# Altium schematic symbol library AS081.A1.SchLib: 1 symbol
Pins are listed as number, name and electrical type; pins without a type are passive.

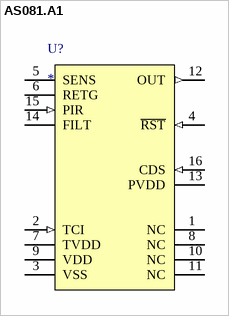
[diagram p0: symbol AS081.A1]

## AS081.A1
designator U?
AS081.A1
pins: 1 NC, 2 TCI (in), 3 VSS, 4 ~{RST} (in), 5 SENS, 6 RETG, 7 TVDD, 8 NC, 9 VDD (power), 10 NC, 11 NC, 12 OUT (out), 13 PVDD (power), 14 FILT, 15 PIR (in), 16 CDS (in)